# Altium schematic symbol library TPS72325DBVR.SchLib: 1 symbol
Pins are listed as number, name and electrical type; pins without a type are passive.

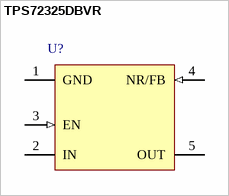
[diagram p0: symbol TPS72325DBVR]

## TPS72325DBVR
designator U?
pins: 1 GND (power), 2 IN (power), 3 EN (in), 4 NR/FB (in), 5 OUT (power)